# EAGLE library part FT600 (library FTDI)
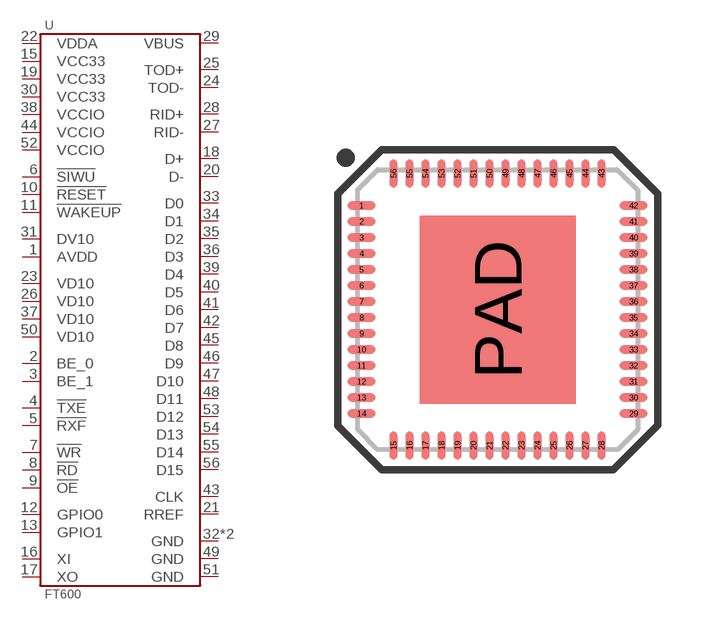
[diagram p8: symbol with the pads of VQFN-56-7MM; footprint VQFN-56-7MM]

Designator prefix U

## FT600Q-T  [VQFN-56-7MM]
1  AVDD
2  BE_0
3  BE_1
4  !TXE
5  !RXF
6  !SIWU
7  !WR
8  !RD
9  !OE
10  !RESET
11  !WAKEUP
12  GPIO0
13  GPIO1
15  VCC33
16  XI
17  XO
18  D+
19  VCC33
20  D-
21  RREF
22  VDDA
23  VD10
24  TOD-
25  TOD+
26  VD10
27  RID-
28  RID+
29  VBUS
30  VCC33
31  DV10
32  GND
33  D0
34  D1
35  D2
36  D3
37  VD10
38  VCCIO
39  D4
40  D5
41  D6
42  D7
43  CLK
44  VCCIO
45  D8
46  D9
47  D10
48  D11
49  GND
50  VD10
51  GND
52  VCCIO
53  D12
54  D13
55  D14
56  D15
PAD  GND

## Footprint VQFN-56-7MM (pad centres in mm)
smd 0.7 x 0.2: 1 -3.4,2.6; 2 -3.4,2.2; 3 -3.4,1.8; 4 -3.4,1.4; 5 -3.4,1; 6 -3.4,0.6; 7 -3.4,0.2; 8 -3.4,-0.2; 9 -3.4,-0.6; 10 -3.4,-1; 11 -3.4,-1.4; 12 -3.4,-1.8; 13 -3.4,-2.2; 14 -3.4,-2.6; 29 3.4,-2.6; 30 3.4,-2.2; 31 3.4,-1.8; 32 3.4,-1.4; 33 3.4,-1; 34 3.4,-0.6; 35 3.4,-0.2; 36 3.4,0.2; 37 3.4,0.6; 38 3.4,1; 39 3.4,1.4; 40 3.4,1.8; 41 3.4,2.2; 42 3.4,2.6
smd 0.2 x 0.7: 15 -2.6,-3.4; 16 -2.2,-3.4; 17 -1.8,-3.4; 18 -1.4,-3.4; 19 -1,-3.4; 20 -0.6,-3.4; 21 -0.2,-3.4; 22 0.2,-3.4; 23 0.6,-3.4; 24 1,-3.4; 25 1.4,-3.4; 26 1.8,-3.4; 27 2.2,-3.4; 28 2.6,-3.4; 43 2.6,3.4; 44 2.2,3.4; 45 1.8,3.4; 46 1.4,3.4; 47 1,3.4; 48 0.6,3.4; 49 0.2,3.4; 50 -0.2,3.4; 51 -0.6,3.4; 52 -1,3.4; 53 -1.4,3.4; 54 -1.8,3.4; 55 -2.2,3.4; 56 -2.6,3.4
smd 3.9 x 4.7: PAD 0,0